# EAGLE library part SPI_BUS (library lieven)
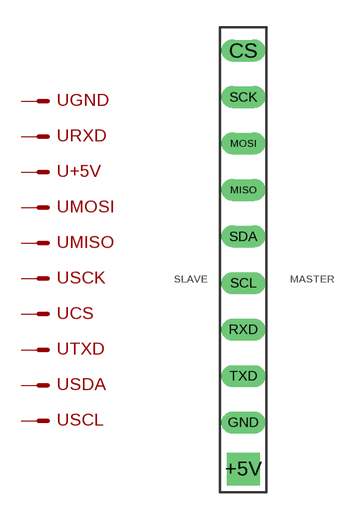
[diagram p13: symbol with the pads of SPI_BUS; footprint SPI_BUS]

Designator prefix -; gates GND=M RXD=M +5V=M MOSI=M MISO=M SCK=M CS=M TXD=M SDA=M SCL=M

## SPI_BUS  [SPI_BUS]
+5V  +5V:S  pas
CS  CS:S  pas
GND  GND:S  pas
MISO  MISO:S  pas
MOSI  MOSI:S  pas
RXD  RXD:S  pas
SCK  SCK:S  pas
SCL  SCL:S  pas
SDA  SDA:S  pas
TXD  TXD:S  pas

## Footprint SPI_BUS (pad centres in mm)
drill 0.7 pad 1.778 square: +5V 0,0
drill 0.7 long: CS 0,22.86; GND 0,2.54; MISO 0,15.24; MOSI 0,17.78; RXD 0,7.62; SCK 0,20.32; SCL 0,10.16; SDA 0,12.7; TXD 0,5.08